# EAGLE library part LM4838 (library IC)
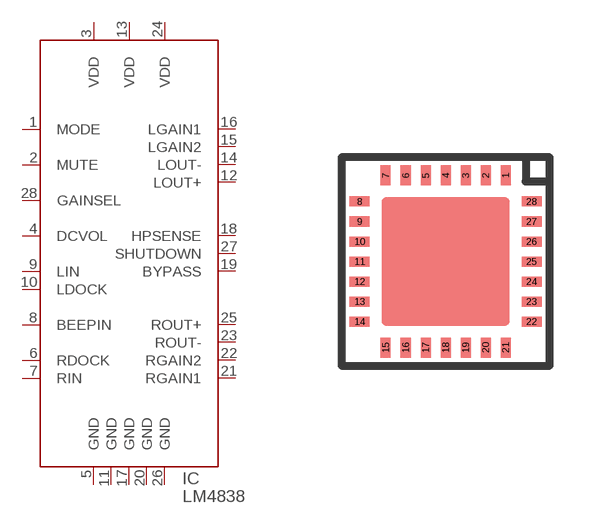
[diagram p149: symbol with the pads of LLP28; footprint LLP28]

Designator prefix IC

## LM4838LQ  [LLP28]
1  MODE
2  MUTE
3  VDD
4  DCVOL
5  GND
6  RDOCK
7  RIN
8  BEEPIN
9  LIN
10  LDOCK
11  GND
12  LOUT+
13  VDD
14  LOUT-
15  LGAIN2
16  LGAIN1
17  GND
18  HPSENSE
19  BYPASS
20  GND
21  RGAIN1
22  RGAIN2
23  ROUT-
24  VDD
25  ROUT+
26  GND
27  SHUTDOWN
28  GAINSEL

## Footprint LLP28 (pad centres in mm)
National Semiconductor package LQA028AA, 28 pin LLP
smd 0.25 x 0.5: 1 1.5,2.15; 2 1,2.15; 3 0.5,2.15; 4 0,2.15; 5 -0.5,2.15; 6 -1,2.15; 7 -1.5,2.15; 15 -1.5,-2.15; 16 -1,-2.15; 17 -0.5,-2.15; 18 0,-2.15; 19 0.5,-2.15; 20 1,-2.15; 21 1.5,-2.15
smd 0.5 x 0.25: 8 -2.15,1.5; 9 -2.15,1; 10 -2.15,0.5; 11 -2.15,0; 12 -2.15,-0.5; 13 -2.15,-1; 14 -2.15,-1.5; 22 2.15,-1.5; 23 2.15,-1; 24 2.15,-0.5; 25 2.15,0; 26 2.15,0.5; 27 2.15,1; 28 2.15,1.5